# EAGLE library part MXD1000S (library maxim)
DELAY LINE
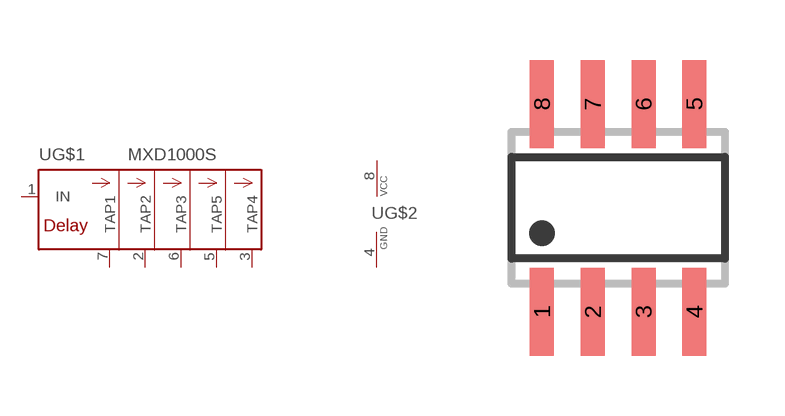
[diagram p335: symbol with the pads of SO08; footprint SO08]

Designator prefix U; gates G$1=MXD1000 G$2=VCC-GND

## MXD1000S  [SO08]
1  G$1:IN  in
2  G$1:TAP2  out
3  G$1:TAP4  out
4  G$2:GND  pwr
5  G$1:TAP5  out
6  G$1:TAP3  out
7  G$1:TAP1  out
8  G$2:VCC  pwr

## Footprint SO08 (pad centres in mm)
SMALL OUTLINE INTEGRATED CIRCUIT body 3.9 mm/JEDEC MS-012AA
smd 0.6 x 2.2: 1 -1.905,-2.6; 2 -0.635,-2.6; 3 0.635,-2.6; 4 1.905,-2.6; 5 1.905,2.6; 6 0.635,2.6; 7 -0.635,2.6; 8 -1.905,2.6